# EAGLE library part ATSAM3U4C (library LITTLEBITS140826)
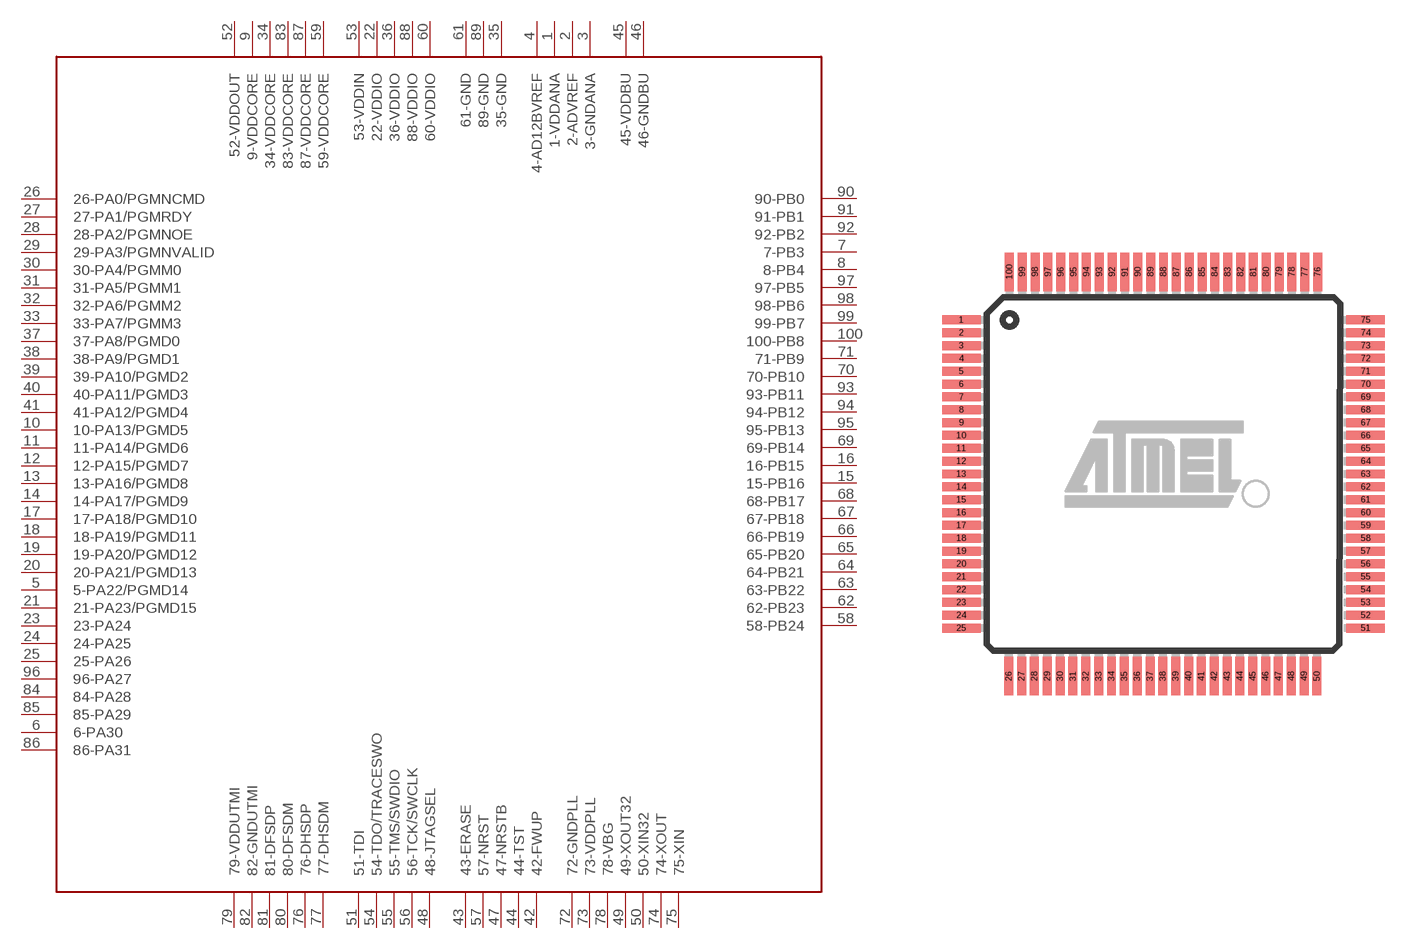
[diagram p59: symbol with the pads of LQFP100; footprint LQFP100]

Designator prefix -

## ATSAM3U4C  [LQFP100]
1  1-VDDANA
2  2-ADVREF
3  3-GNDANA
4  4-AD12BVREF
5  5-PA22/PGMD14
6  6-PA30
7  7-PB3
8  8-PB4
9  9-VDDCORE
10  10-PA13/PGMD5
11  11-PA14/PGMD6
12  12-PA15/PGMD7
13  13-PA16/PGMD8
14  14-PA17/PGMD9
15  15-PB16
16  16-PB15
17  17-PA18/PGMD10
18  18-PA19/PGMD11
19  19-PA20/PGMD12
20  20-PA21/PGMD13
21  21-PA23/PGMD15
22  22-VDDIO
23  23-PA24
24  24-PA25
25  25-PA26
26  26-PA0/PGMNCMD
27  27-PA1/PGMRDY
28  28-PA2/PGMNOE
29  29-PA3/PGMNVALID
30  30-PA4/PGMM0
31  31-PA5/PGMM1
32  32-PA6/PGMM2
33  33-PA7/PGMM3
34  34-VDDCORE
35  35-GND
36  36-VDDIO
37  37-PA8/PGMD0
38  38-PA9/PGMD1
39  39-PA10/PGMD2
40  40-PA11/PGMD3
41  41-PA12/PGMD4
42  42-FWUP
43  43-ERASE
44  44-TST
45  45-VDDBU
46  46-GNDBU
47  47-NRSTB
48  48-JTAGSEL
49  49-XOUT32
50  50-XIN32
51  51-TDI
52  52-VDDOUT
53  53-VDDIN
54  54-TDO/TRACESWO
55  55-TMS/SWDIO
56  56-TCK/SWCLK
57  57-NRST
58  58-PB24
59  59-VDDCORE
60  60-VDDIO
61  61-GND
62  62-PB23
63  63-PB22
64  64-PB21
65  65-PB20
66  66-PB19
67  67-PB18
68  68-PB17
69  69-PB14
70  70-PB10
71  71-PB9
72  72-GNDPLL
73  73-VDDPLL
74  74-XOUT
75  75-XIN
76  76-DHSDP
77  77-DHSDM
78  78-VBG
79  79-VDDUTMI
80  80-DFSDM
81  81-DFSDP
82  82-GNDUTMI
83  83-VDDCORE
84  84-PA28
85  85-PA29
86  86-PA31
87  87-VDDCORE
88  88-VDDIO
89  89-GND
90  90-PB0
91  91-PB1
92  92-PB2
93  93-PB11
94  94-PB12
95  95-PB13
96  96-PA27
97  97-PB5
98  98-PB6
99  99-PB7
100  100-PB8

## Footprint LQFP100 (pad centres in mm)
LQFP 100 Source: 6120s.pdf
smd 1.5 x 0.35: 1 -7.875,6; 2 -7.875,5.5; 3 -7.875,5; 4 -7.875,4.5; 5 -7.875,4; 6 -7.875,3.5; 7 -7.875,3; 8 -7.875,2.5; 9 -7.875,2; 10 -7.875,1.5; 11 -7.875,1; 12 -7.875,0.5; 13 -7.875,0; 14 -7.875,-0.5; 15 -7.875,-1; 16 -7.875,-1.5; 17 -7.875,-2; 18 -7.875,-2.5; 19 -7.875,-3; 20 -7.875,-3.5; 21 -7.875,-4; 22 -7.875,-4.5; 23 -7.875,-5; 24 -7.875,-5.5; 25 -7.875,-6; 51 7.875,-6; 52 7.875,-5.5; 53 7.875,-5; 54 7.875,-4.5; 55 7.875,-4; 56 7.875,-3.5; 57 7.875,-3; 58 7.875,-2.5; 59 7.875,-2; 60 7.875,-1.5; 61 7.875,-1; 62 7.875,-0.5; 63 7.875,0; 64 7.875,0.5; 65 7.875,1; 66 7.875,1.5; 67 7.875,2; 68 7.875,2.5; 69 7.875,3; 70 7.875,3.5; 71 7.875,4; 72 7.875,4.5; 73 7.875,5; 74 7.875,5.5; 75 7.875,6
smd 0.35 x 1.5: 26 -6.025,-7.875; 27 -5.525,-7.875; 28 -5.025,-7.875; 29 -4.525,-7.875; 30 -4.025,-7.875; 31 -3.525,-7.875; 32 -3.025,-7.875; 33 -2.525,-7.875; 34 -2.025,-7.875; 35 -1.525,-7.875; 36 -1.025,-7.875; 37 -0.525,-7.875; 38 -0.025,-7.875; 39 0.475,-7.875; 40 0.975,-7.875; 41 1.475,-7.875; 42 1.975,-7.875; 43 2.475,-7.875; 44 2.975,-7.875; 45 3.475,-7.875; 46 3.975,-7.875; 47 4.475,-7.875; 48 4.975,-7.875; 49 5.475,-7.875; 50 5.975,-7.875; 76 6,7.875; 77 5.5,7.875; 78 5,7.875; 79 4.5,7.875; 80 4,7.875; 81 3.5,7.875; 82 3,7.875; 83 2.5,7.875; 84 2,7.875; 85 1.5,7.875; 86 1,7.875; 87 0.5,7.875; 88 0,7.875; 89 -0.5,7.875; 90 -1,7.875; 91 -1.5,7.875; 92 -2,7.875; 93 -2.5,7.875; 94 -3,7.875; 95 -3.5,7.875; 96 -4,7.875; 97 -4.5,7.875; 98 -5,7.875; 99 -5.5,7.875; 100 -6,7.875